# Altium schematic symbol library SnapEDAsch.SchLib: 1 symbol
Pins are listed as number, name and electrical type; pins without a type are passive.

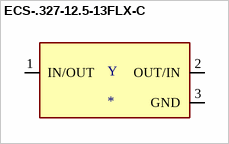
[diagram p0: symbol ECS-.327-12.5-13FLX-C]

## ECS-.327-12.5-13FLX-C
designator Y
32.768kHz Â±10ppm Crystal 12.5pF 50 kOhms Cylindrical Can, Radial; MP: ECS-.327-12.5-13FLX-C; MF: ECS Inc.; Package: Cylindrical Can Radial  ECS International; Digi-Key_Purchase_URL: https://www.digikey.com/product-detail/en/ecs-inc/ECS-.327-12.5-13FLX-C/XC1911CT-ND/2782036?utm_source=snapeda&utm_medium=aggregator&utm_campaign=symbol; Digi-Key_Part_Number: XC1911CT-ND; SnapEDA_Link: https://www.snapeda.com/parts/ECS-.327-12.5-13FLX-C/ECS%20Inc./view-part/869298/?ref=snap; Value: *
footprint XTAL_ECS-.327-12.5-13FLX-C
pins: 1 IN/OUT (io), 2 OUT/IN (io), 3 GND (power)